# Altium footprint library TSOP54.PcbLib: 1 footprints
Each footprint in its own frame and in the unit in brackets; x right, y up, seen from the top. Pads: shape width x height; smd on the part's side, far side on the other; paste and mask are expansions set on the pad; w line width, h text height; cw(c..) or ccw(c..) is an arc to the next point about the centre after c.
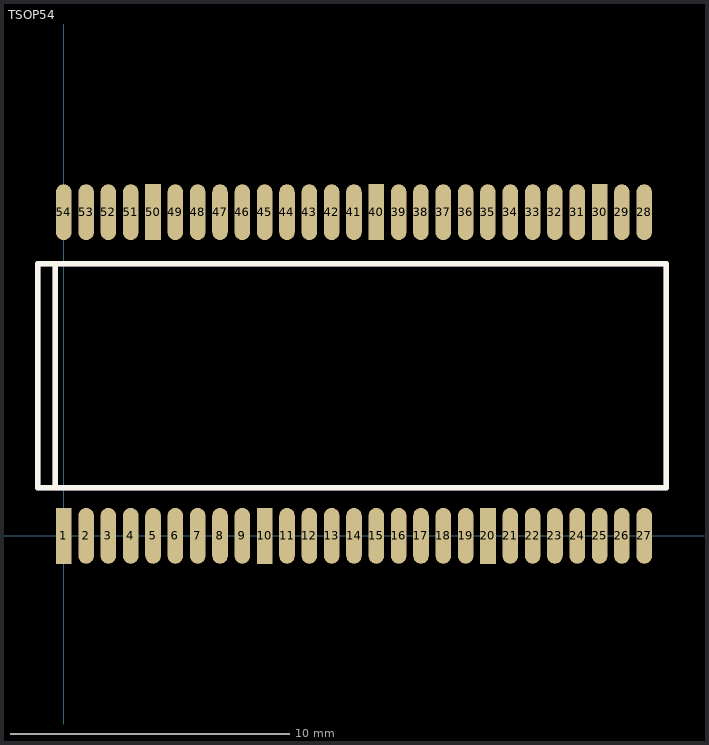
[diagram p0: the footprint, top view; thin cyan lines are the x and y axes]

## TSOP54 [mil]
height 1
pads (54):
  rect 22x78.73 smd: 1(0,0) 10(283.5,0) 20(598.5,0) 30(755.9,456.7) 40(440.95,456.7) 50(126,456.7)
  oval 22x78.73 smd: 2(31.5,0) 3(63,0) 4(94.5,0) 5(126,0) 6(157.5,0) 7(189,0) 8(220.5,0) 9(252,0) 11(315,0) 12(346.5,0) 13(378,0) 14(409.5,0) 15(441,0) 16(472.5,0) 17(504,0) 18(535.5,0) 19(567,0) 21(630,0) 22(661.5,0) 23(693,0) 24(724.5,0) 25(756,0) 26(787.5,0) 27(819,0) 28(818.9,456.7) 29(787.4,456.7) 31(724.42,456.7) 32(692.92,456.7) 33(661.42,456.7) 34(629.92,456.7) 35(598.43,456.7) 36(566.93,456.7) 37(535.43,456.7) 38(503.93,456.7) 39(472.43,456.7) 41(409.45,456.7) 42(377.95,456.7) 43(346.45,456.7) 44(314.97,456.7) 45(283.47,456.7) 46(251.97,456.7) 47(220.47,456.7) 48(189,456.7) 49(157.48,456.7) 51(94.48,456.7) 52(63,456.7) 53(31.5,456.7) 54(0,456.7)
Top Overlay:
  lines w8: -11.8,68 -11.8,384 ; -36.8,68 -36.8,384 850,384 850,68 -36.8,68
Mechanical 1:
  lines w8: -11.8,68 -11.8,384 ; -36.8,68 -36.8,384 850,384 850,68 -36.8,68
3D body: height 51, standoff -15.9, extent -27.4,5 847.4,467.99